# Altium schematic symbol library 2018-02-11_13-18-48.SchLib: 26 symbols
Pins are listed as number, name and electrical type; pins without a type are passive.

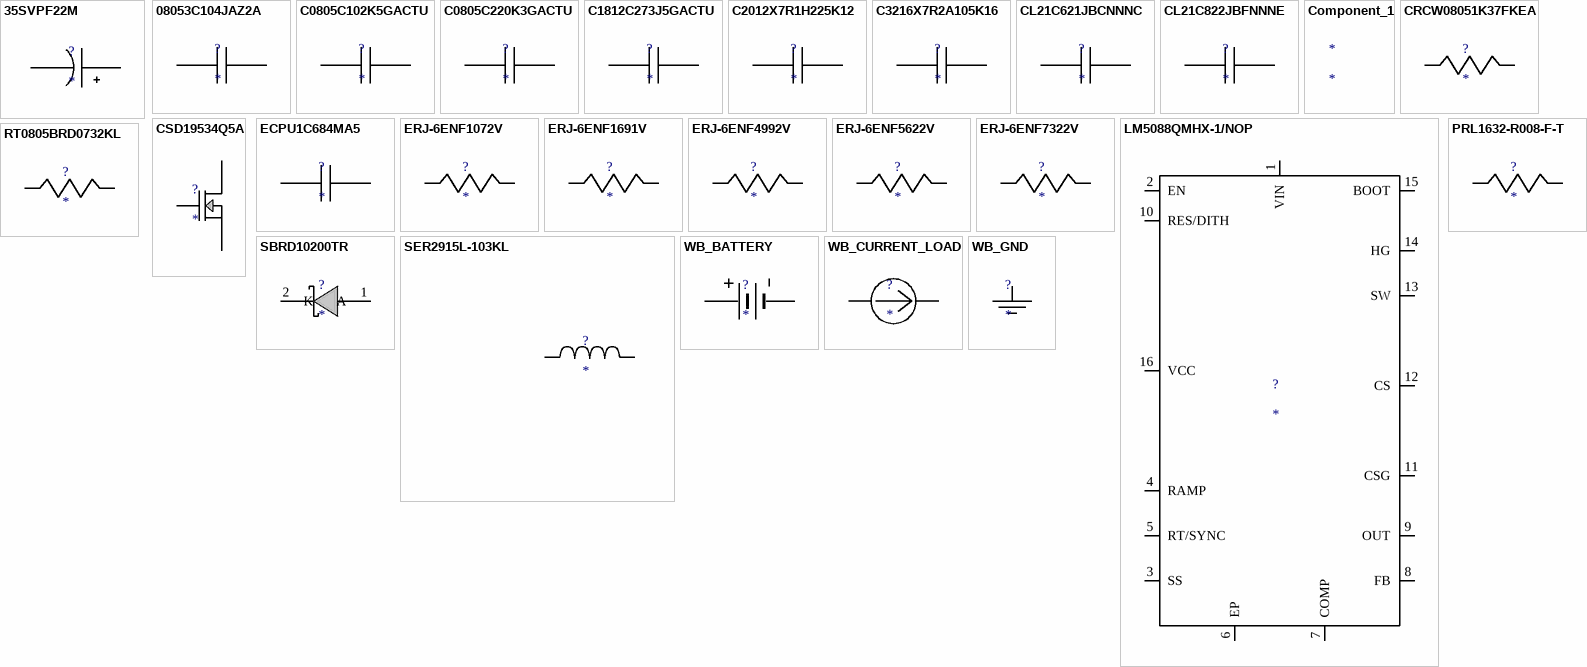
[diagram p0: symbols 35SVPF22M to WB_GND]

## 35SVPF22M
designator ?
Imported; Manufacturer_Part_Number: 35SVPF22M; Vendor: Panasonic; Manufacturer_Name: Panasonic; RefDes: RefDes; TYPE: TYPE; Value: Value
footprint CAPSMT_62_F61
pins: 1 +, 2 -

## 08053C104JAZ2A
designator ?
Imported; Manufacturer_Part_Number: 08053C104JAZ2A; Vendor: AVX; Manufacturer_Name: AVX; RefDes: RefDes; TYPE: TYPE; Value: Value
footprint 0805
pins: 1, 2

## C0805C102K5GACTU
designator ?
Imported; Manufacturer_Part_Number: C0805C102K5GACTU; Vendor: Kemet; Manufacturer_Name: Kemet; RefDes: RefDes; TYPE: TYPE; Value: Value
footprint 0805
pins: 1, 2

## C0805C220K3GACTU
designator ?
Imported; Manufacturer_Part_Number: C0805C220K3GACTU; Vendor: Kemet; Manufacturer_Name: Kemet; RefDes: RefDes; TYPE: TYPE; Value: Value
footprint 0805
pins: 1, 2

## C1812C273J5GACTU
designator ?
Imported; Manufacturer_Part_Number: C1812C273J5GACTU; Vendor: Kemet; Manufacturer_Name: Kemet; RefDes: RefDes; TYPE: TYPE; Value: Value
footprint 1812
pins: 1, 2

## C2012X7R1H225K12
designator ?
Imported; Manufacturer_Part_Number: C2012X7R1H225K125AC; Vendor: TDK; Manufacturer_Name: TDK; RefDes: RefDes; TYPE: TYPE; Value: Value
footprint 0805
pins: 1, 2

## C3216X7R2A105K16
designator ?
Imported; Manufacturer_Part_Number: C3216X7R2A105K160AA; Vendor: TDK; Manufacturer_Name: TDK; RefDes: RefDes; TYPE: TYPE; Value: Value
footprint 1206_180
pins: 1, 2

## CL21C621JBCNNNC
designator ?
Imported; Manufacturer_Part_Number: CL21C621JBCNNNC; Vendor: Samsung Electro-Mechanics; Manufacturer_Name: Samsung Electro-Mechanics; RefDes: RefDes; TYPE: TYPE; Value: Value
footprint 0805
pins: 1, 2

## CL21C822JBFNNNE
designator ?
Imported; Manufacturer_Part_Number: CL21C822JBFNNNE; Vendor: Samsung Electro-Mechanics; Manufacturer_Name: Samsung Electro-Mechanics; RefDes: RefDes; TYPE: TYPE; Value: Value
footprint 0805
pins: 1, 2

## Component_1
designator *

## CRCW08051K37FKEA
designator ?
Imported; Manufacturer_Part_Number: CRCW08051K37FKEA; Vendor: Vishay-Dale; Manufacturer_Name: Vishay-Dale; RefDes: RefDes; TYPE: TYPE; Value: Value
footprint 0805
pins: 1, 2

## CSD19534Q5A
designator ?
Imported; Manufacturer_Part_Number: CSD19534Q5A; VdsMax: 100.0V; IdsMax: 10.0A; Rdsonat10V: 0.012Ohm; QgTyp: 17nC; Vendor: Texas Instruments; Datasheet_URL: http://www.ti.com/lit/ds/symlink/CSD19534Q5A.pdf; Quantity: 1; Manufacturer_Name: Texas Instruments; RefDes: RefDes; TYPE: TYPE; Value: Value
footprint TRANS_NexFET_Q5A
pins: 1 Source, 2 Source, 3 Source, 4 Gate, 5 Drain, 6 Drain, 7 Drain, 8 Drain, 9 Drain

## ECPU1C684MA5
designator ?
Imported; Manufacturer_Part_Number: ECPU1C684MA5; Vendor: Panasonic; Manufacturer_Name: Panasonic; RefDes: RefDes; TYPE: TYPE; Value: Value
footprint 1206
pins: 1, 2

## ERJ-6ENF1072V
designator ?
Imported; Manufacturer_Part_Number: ERJ-6ENF1072V; Vendor: Panasonic; Manufacturer_Name: Panasonic; RefDes: RefDes; TYPE: TYPE; Value: Value
footprint 0805
pins: 1, 2

## ERJ-6ENF1691V
designator ?
Imported; Manufacturer_Part_Number: ERJ-6ENF1691V; Vendor: Panasonic; Manufacturer_Name: Panasonic; RefDes: RefDes; TYPE: TYPE; Value: Value
footprint 0805
pins: 1, 2

## ERJ-6ENF4992V
designator ?
Imported; Manufacturer_Part_Number: ERJ-6ENF4992V; Vendor: Panasonic; Manufacturer_Name: Panasonic; RefDes: RefDes; TYPE: TYPE; Value: Value
footprint 0805
pins: 1, 2

## ERJ-6ENF5622V
designator ?
Imported; Manufacturer_Part_Number: ERJ-6ENF5622V; Vendor: Panasonic; Manufacturer_Name: Panasonic; RefDes: RefDes; TYPE: TYPE; Value: Value
footprint 0805
pins: 1, 2

## ERJ-6ENF7322V
designator ?
Imported; Manufacturer_Part_Number: ERJ-6ENF7322V; Vendor: Panasonic; Manufacturer_Name: Panasonic; RefDes: RefDes; TYPE: TYPE; Value: Value
footprint 0805
pins: 1, 2

## LM5088QMHX-1/NOP
designator ?
Imported; Manufacturer_Part_Number: LM5088MHX-2/NOPB; Vendor: Texas Instruments; Manufacturer_Name: Texas Instruments; RefDes: RefDes; TYPE: TYPE; Value: Value
footprint MXA16A
pins: 1 VIN, 2 EN, 3 SS, 4 RAMP, 5 RT/SYNC, 6 EP, 7 COMP, 8 FB, 9 OUT, 10 RES/DITH, 11 CSG, 12 CS, 13 SW, 14 HG, 15 BOOT, 16 VCC, 17 EP

## PRL1632-R008-F-T
designator ?
Imported; Manufacturer_Part_Number: PRL1632-R008-F-T1; Vendor: Susumu Co Ltd; Manufacturer_Name: Susumu Co Ltd; RefDes: RefDes; TYPE: TYPE; Value: Value
footprint 0612
pins: 1, 2

## RT0805BRD0732KL
designator ?
Imported; Manufacturer_Part_Number: RT0805BRD0732KL; Vendor: Yageo America; Manufacturer_Name: Yageo America; RefDes: RefDes; TYPE: TYPE; Value: Value
footprint 0805
pins: 1, 2

## SBRD10200TR
designator ?
Imported; Manufacturer_Part_Number: SBRD10200TR; Vendor: SMC Diode Solutions; Manufacturer_Name: SMC Diode Solutions; RefDes: RefDes; TYPE: TYPE; Value: Value
footprint DPAK
pins: 1 A, 2 K, 3 A

## SER2915L-103KL
designator ?
Imported; Manufacturer_Part_Number: SER2915L-103KL; Vendor: Coilcraft; Manufacturer_Name: Coilcraft; RefDes: RefDes; TYPE: TYPE; Value: Value
footprint SER2915
pins: 1, 2

## WB_BATTERY
designator ?
Imported; Manufacturer_Part_Number: WB_BATTERY; PowerPortType: POWER_GROUND; Value: Value; Manufacturer_Name: WB_BATTERY; RefDes: RefDes; TYPE: TYPE
pins: 1 +, 2 -

## WB_CURRENT_LOAD
designator ?
Imported; Manufacturer_Part_Number: WB_CURRENT_LOAD; PowerPortType: POWER_GROUND; Value: Value; Manufacturer_Name: WB_CURRENT_LOAD; RefDes: RefDes; TYPE: TYPE
pins: 1 +, 2 -

## WB_GND
designator ?
Imported; Manufacturer_Part_Number: WB_GND; PowerPortType: POWER_GROUND; Value: Value; Manufacturer_Name: WB_GND; RefDes: RefDes; TYPE: TYPE
pins: 1